# Altium footprint library Switch.PcbLib: 50 footprints (part 4 of 4)
Each footprint in its own frame and in the unit in brackets; x right, y up, seen from the top. Pads: shape width x height; smd on the part's side, far side on the other; paste and mask are expansions set on the pad; w line width, h text height; cw(c..) or ccw(c..) is an arc to the next point about the centre after c.
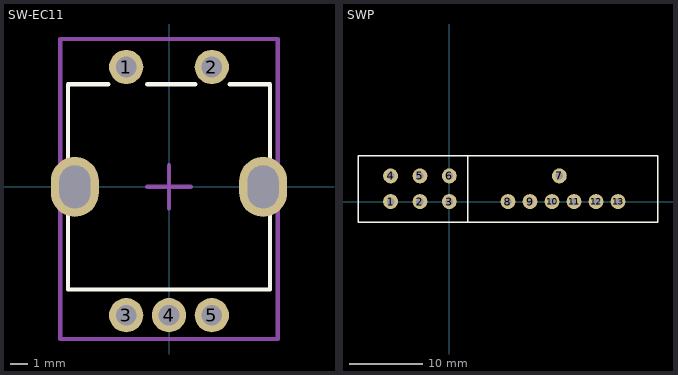
[diagram p3: the footprints below, top view; thin cyan lines are the x and y axes]

## SW-EC11 [mm] "EC11"
pads (7):
  round 2 hole 1.2: 1(-2.5,7) 2(2.5,7) 3(-2.5,-7.5) 4(0,-7.5) 5(2.5,-7.5)
  oval 2.8x3.5 hole 1.8 slot 2.5 at 90 deg: ""(-5.5,0) ""(5.5,0)
Top Overlay:
  lines w0.254: -3.556,6 -5.9,6 -5.9,-6 5.9,-6 5.9,6 3.556,6 ; -1.27,6 1.524,6
Top Courtyard:
  lines w0.254: -1.27,0 1.27,0 ; 0,-1.27 0,1.27 ; -6.35,-8.89 -6.35,8.636 6.35,8.636 6.35,-8.89 -6.35,-8.89
3D body "User Library-EC11B15244.STEP": height 31.6, standoff -3.47, extent -6.549,-7.726 6.549,7.4

## SWP [mil] "SW Power"
height 100
pads (13):
  round 80 hole 40: 1(-314.96,0) 2(-157.48,0) 3(0,0) 4(-314.96,137.8) 5(-157.48,137.8) 6(0,137.8) 7(590.55,137.8) 8(314.96,0) 9(433.07,0) 10(551.18,0) 11(669.29,0) 12(787.4,0) 13(905.51,0)
Top Overlay:
  lines w8: 100,-109.33 100,245 ; -490,-110 1120,-110 1120,245 -490,245 -490,-110